# EAGLE library part GPS_MODUL_FGPMMOPA6B (library FGPMMOPA6B_GPS_MODUL)
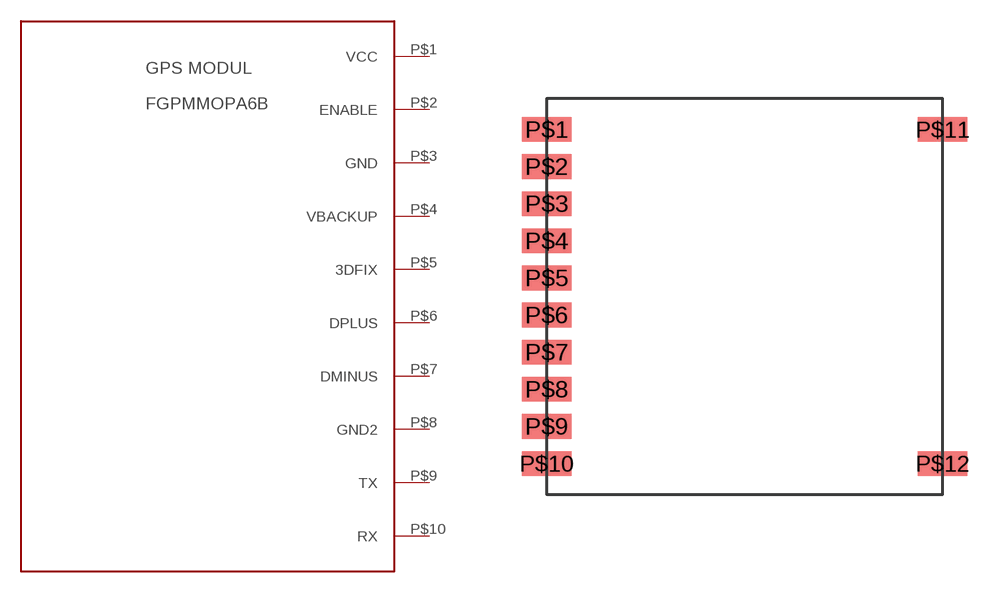
[diagram p0: symbol with the pads of FGPMMOPA6B; footprint FGPMMOPA6B]

Designator prefix -

## GPS_MODUL_FGPMMOPA6B  [FGPMMOPA6B]
P$1  VCC
P$2  ENABLE
P$3  GND
P$4  VBACKUP
P$5  3DFIX
P$6  DPLUS
P$7  DMINUS
P$8  GND2
P$9  TX
P$10  RX

## Footprint FGPMMOPA6B (pad centres in mm)
smd 2 x 1: P$1 0,14.75; P$2 0,13.25; P$3 0,11.75; P$4 0,10.25; P$5 0,8.75; P$6 0,7.25; P$7 0,5.75; P$8 0,4.25; P$9 0,2.75; P$10 0,1.25; P$11 16,14.75; P$12 16,1.25